# Altium footprint library 40V 5A Schottky Diyot.PcbLib: 1 footprints
Each footprint in its own frame and in the unit in brackets; x right, y up, seen from the top. Pads: shape width x height; smd on the part's side, far side on the other; paste and mask are expansions set on the pad; w line width, h text height; cw(c..) or ccw(c..) is an arc to the next point about the centre after c.
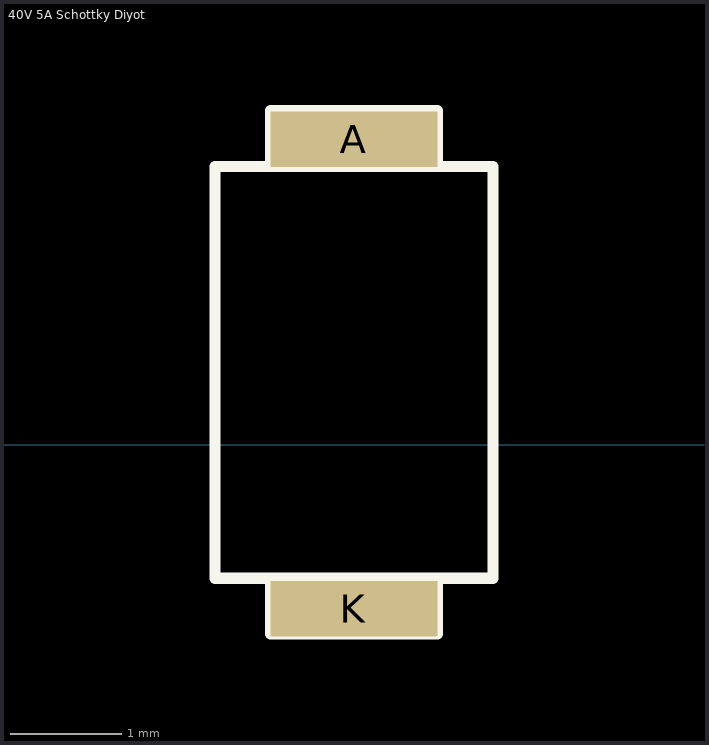
[diagram p0: the footprint, top view; thin cyan lines are the x and y axes]

## 40V 5A Schottky Diyot [mm]
pads (2):
  rect 1.5x0.5 smd mask+0.01: A(-3.251,2.743) K(-3.251,-1.473)
Top Overlay:
  lines w0.1: -4,-1.2 -4,-1.7 -2.5,-1.7 -2.5,-1.2 ; -4,2.5 -4,3 -2.5,3 -2.5,2.5 ; -4.5,-1.2 -4.5,2.5 -2,2.5 -2,-1.2 -4.5,-1.2